# EAGLE library part ACOUSTICLIB_IP4220CZ6 (library LIBRARY)
IP4220CZ6 The IP4220CZ6 is designed to protect I/O lines sensitive to capacitive load, such as USB 2.0 http://www.farnell.com/datasheets/1708221.pdf
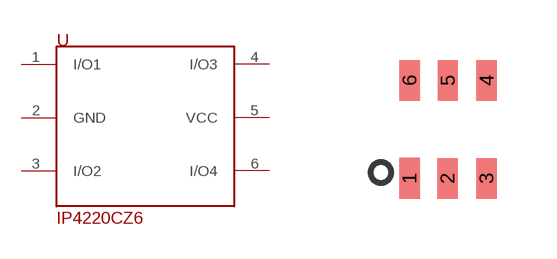
[diagram p0: symbol with the pads of ACOUSTICLIB_SC-74; footprint ACOUSTICLIB_SC-74]

Designator prefix -

## ACOUSTICLIB_IP4220CZ6  [ACOUSTICLIB_SC-74]
1  I/O1
2  GND
3  I/O2
4  I/O3
5  VCC
6  I/O4

## Footprint ACOUSTICLIB_SC-74 (pad centres in mm)
SC-74
smd 0.508 x 1.016: 1 -0.727,-1.248; 2 0.225,-1.25; 3 1.2,-1.25; 4 1.205,1.2; 5 0.235,1.195; 6 -0.725,1.2